# EAGLE library part AD5061BRJZ-1500RL7 (library AD5061BRJZ-1500RL7)
DAC 1-CH Segment 16-bit 8-Pin SOT-23 T/R Source: Datasheet
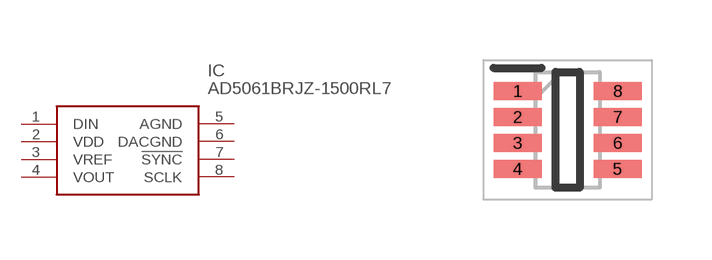
[diagram p0: symbol with the pads of SOT65P280X145-8N; footprint SOT65P280X145-8N]

Designator prefix IC

## AD5061BRJZ-1500RL7 (Description: DAC 1-CH Segment 16-bit 8-Pin SOT-23 T/R; Height: 1.45mm; Manufacturer_Name: Analog Devices; Manufacturer_Part_Number: AD5061BRJZ-1500RL7; Mouser_Part_Number: 584-AD5061BRJZ1500R7; Mouser_Price-Stock: https://www.mouser.co.uk/ProductDetail/Analog-Devices/AD5061BRJZ-1500RL7?qs=NmRFExCfTkErstKr48Qwig%3D%3D)  [SOT65P280X145-8N]
1  DIN
2  VDD
3  VREF
4  VOUT
5  AGND
6  DACGND
7  !SYNC
8  SCLK

## Footprint SOT65P280X145-8N (pad centres in mm)
RJ-8
smd 1.2 x 0.45: 1 -1.25,0.975; 2 -1.25,0.325; 3 -1.25,-0.325; 4 -1.25,-0.975; 5 1.25,-0.975; 6 1.25,-0.325; 7 1.25,0.325; 8 1.25,0.975